# EAGLE library part TEMPLATE_ARDUINO_MEGA (library voltera_community_lib)
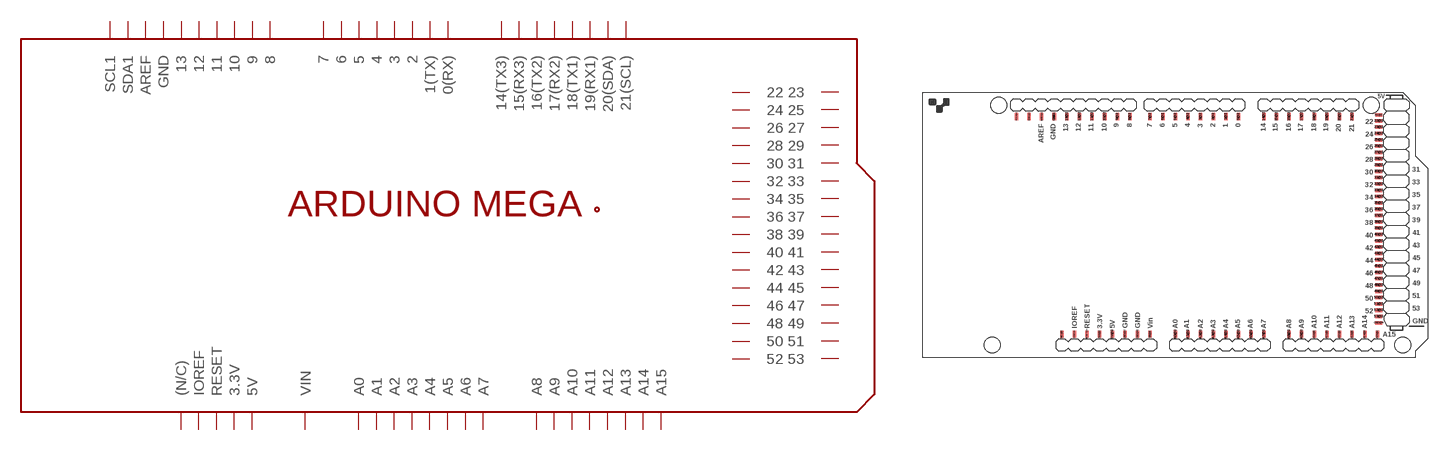
[diagram p1: symbol with the pads of ARDUINO_MEGA; footprint ARDUINO_MEGA]

Designator prefix P

## TEMPLATE_ARDUINO_MEGA_SHIELD  [ARDUINO_MEGA]
0@1  0(RX)
0@2  0(RX)
1@1  1(TX)
1@2  1(TX)
2@1  2
2@2  2
3@1  3
3@2  3
3V3@1  3.3V
3V3@2  3.3V
4@1  4
4@2  4
5@1  5
5@2  5
5V.@1  5V
5V.@3  5V
5V@1  5V
5V@2  5V
6@1  6
6@2  6
7@1  7
7@2  7
8@1  8
8@2  8
9@1  9
9@2  9
10@1  10
10@2  10
11@1  11
11@2  11
12@1  12
12@2  12
13@1  13
13@2  13
14@1  14(TX3)
14@2  14(TX3)
15@1  15(RX3)
15@2  15(RX3)
16@1  16(TX2)
16@2  16(TX2)
17@1  17(RX2)
17@2  17(RX2)
18@1  18(TX1)
18@2  18(TX1)
19@1  19(RX1)
19@2  19(RX1)
20@1  20(SDA)
20@2  20(SDA)
21@1  21(SCL)
21@2  21(SCL)
22@1  22
22@2  22
23@1  23
23@2  23
24@1  24
24@2  24
25@1  25
25@2  25
26@1  26
26@2  26
27@1  27
27@2  27
28@1  28
28@2  28
29@1  29
29@2  29
30@1  30
30@2  30
31@1  31
31@2  31
32@1  32
32@2  32
33@1  33
33@2  33
34@1  34
34@2  34
35@1  35
35@2  35
36@1  36
36@2  36
37@1  37
37@2  37
38@1  38
38@2  38
39@1  39
39@2  39
40@1  40
40@2  40
41@1  41
41@2  41
42@1  42
42@2  42
43@1  43
43@2  43
44@1  44
44@2  44
45@1  45
45@2  45
46@1  46
46@2  46
47@1  47
47@2  47
48@1  48
48@2  48
49@1  49
49@2  49
50@1  50
50@2  50
51@1  51
51@2  51
52@1  52
52@2  52
53@1  53
53@2  53
A0@1  A0
A0@2  A0
A1@1  A1
A1@2  A1
A2@1  A2
A2@2  A2
A3@1  A3
A3@2  A3
A4@1  A4
A4@2  A4
A5@1  A5
A5@2  A5
A6@1  A6
A6@2  A6
A7@1  A7
A7@2  A7
A8@1  A8
A8@2  A8
A9@1  A9
A9@2  A9
A10@1  A10
A10@2  A10
A11@1  A11
A11@2  A11
A12@1  A12
A12@2  A12
A13@1  A13
A13@2  A13
A14@1  A14
A14@2  A14
A15@1  A15
A15@2  A15
AREF@1  AREF
AREF@2  AREF
GND  GND
GND1  GND
GND@4  GND
GND@7  GND
GND@8  GND
GND@9  GND
GND@10  GND
GND@11  GND
I/OREF@1  IOREF
I/OREF@2  IOREF
N/C@1  (N/C)
N/C@2  (N/C)
RESET@1  RESET
RESET@2  RESET
SCL1@1  SCL1
SCL1@2  SCL1
SDA1@1  SDA1
SDA1@2  SDA1
VIN@1  VIN
VIN@2  VIN

## Footprint ARDUINO_MEGA (pad centres in mm)
smd 0.711 x 1.422 bottom: 0@1 63.5,48.5; 1@1 60.96,48.5; 2@1 58.42,48.5; 3@1 55.88,48.5; 3V3@1 35.56,4.713; 4@1 53.34,48.5; 5@1 50.8,48.5; 5V@1 38.1,4.713; 6@1 48.26,48.5; 7@1 45.72,48.5; 8@1 41.656,48.5; 9@1 39.116,48.5; 10@1 36.576,48.5; 11@1 34.036,48.5; 12@1 31.496,48.5; 13@1 28.956,48.5; 14@1 68.58,48.5; 15@1 71.12,48.5; 16@1 73.66,48.5; 17@1 76.2,48.5; 18@1 78.74,48.5; 19@1 81.28,48.5; 20@1 83.82,48.5; 21@1 86.36,48.5; A0@1 50.8,4.713; A1@1 53.34,4.713; A2@1 55.88,4.713; A3@1 58.42,4.713; A4@1 60.96,4.713; A5@1 63.5,4.713; A6@1 66.04,4.713; A7@1 68.58,4.713; A8@1 73.66,4.713; A9@1 76.2,4.713; A10@1 78.74,4.713; A11@1 81.28,4.713; A12@1 83.82,4.713; A13@1 86.36,4.713; A14@1 88.9,4.713; A15@1 91.44,4.713; AREF@1 23.876,48.5; GND 26.416,48.5; GND@7 40.64,4.713; GND@8 43.18,4.713; I/OREF@1 30.48,4.713; N/C@1 27.94,4.713; RESET@1 33.02,4.713; SCL1@1 18.796,48.5; SDA1@1 21.336,48.5; VIN@1 45.72,4.713
smd 0.711 x 1.422: 0@2 63.5,48.5; 1@2 60.96,48.5; 2@2 58.42,48.5; 3@2 55.88,48.5; 3V3@2 35.56,4.713; 4@2 53.34,48.5; 5@2 50.8,48.5; 5V@2 38.1,4.713; 6@2 48.26,48.5; 7@2 45.72,48.5; 8@2 41.656,48.5; 9@2 39.116,48.5; 10@2 36.576,48.5; 11@2 34.036,48.5; 12@2 31.496,48.5; 13@2 28.956,48.5; 14@2 68.58,48.5; 15@2 71.12,48.5; 16@2 73.66,48.5; 17@2 76.2,48.5; 18@2 78.74,48.5; 19@2 81.28,48.5; 20@2 83.82,48.5; 21@2 86.36,48.5; A0@2 50.8,4.713; A1@2 53.34,4.713; A2@2 55.88,4.713; A3@2 58.42,4.713; A4@2 60.96,4.713; A5@2 63.5,4.713; A6@2 66.04,4.713; A7@2 68.58,4.713; A8@2 73.66,4.713; A9@2 76.2,4.713; A10@2 78.74,4.713; A11@2 81.28,4.713; A12@2 83.82,4.713; A13@2 86.36,4.713; A14@2 88.9,4.713; A15@2 91.44,4.713; AREF@2 23.876,48.5; GND1 26.416,48.5; GND@10 40.64,4.713; GND@11 43.18,4.713; I/OREF@2 30.48,4.713; N/C@2 27.94,4.713; RESET@2 33.02,4.713; SCL1@2 18.796,48.5; SDA1@2 21.336,48.5; VIN@2 45.72,4.713
smd 1.422 x 0.711 bottom: 5V.@1 91.669,48.768; 22@1 91.669,47.625; 23@1 91.669,46.355; 24@1 91.669,45.085; 25@1 91.669,43.815; 26@1 91.669,42.545; 27@1 91.669,41.275; 28@1 91.669,40.005; 29@1 91.669,38.735; 30@1 91.669,37.465; 31@1 91.669,36.195; 32@1 91.669,34.925; 33@1 91.669,33.655; 34@1 91.669,32.385; 35@1 91.669,31.115; 36@1 91.669,29.845; 37@1 91.669,28.575; 38@1 91.669,27.305; 39@1 91.669,26.035; 40@1 91.669,24.765; 41@1 91.669,23.495; 42@1 91.669,22.225; 43@1 91.669,20.955; 44@1 91.669,19.685; 45@1 91.669,18.415; 46@1 91.669,17.145; 47@1 91.669,15.875; 48@1 91.669,14.605; 49@1 91.669,13.335; 50@1 91.669,12.065; 51@1 91.669,10.795; 52@1 91.669,9.525; 53@1 91.669,8.255; GND@4 91.669,6.985
smd 1.422 x 0.711: 5V.@3 91.669,48.768; 22@2 91.669,47.625; 23@2 91.669,46.355; 24@2 91.669,45.085; 25@2 91.669,43.815; 26@2 91.669,42.545; 27@2 91.669,41.275; 28@2 91.669,40.005; 29@2 91.669,38.735; 30@2 91.669,37.465; 31@2 91.669,36.195; 32@2 91.669,34.925; 33@2 91.669,33.655; 34@2 91.669,32.385; 35@2 91.669,31.115; 36@2 91.669,29.845; 37@2 91.669,28.575; 38@2 91.669,27.305; 39@2 91.669,26.035; 40@2 91.669,24.765; 41@2 91.669,23.495; 42@2 91.669,22.225; 43@2 91.669,20.955; 44@2 91.669,19.685; 45@2 91.669,18.415; 46@2 91.669,17.145; 47@2 91.669,15.875; 48@2 91.669,14.605; 49@2 91.669,13.335; 50@2 91.669,12.065; 51@2 91.669,10.795; 52@2 91.669,9.525; 53@2 91.669,8.255; GND@9 91.669,6.985
hole 3.2 at 15.24,50.8
hole 3.2 at 13.97,2.54
hole 3.2 at 90.17,50.8
hole 3.2 at 96.52,2.54